# Altium schematic symbol library LM46001.Schlib: 1 symbol
Pins are listed as number, name and electrical type; pins without a type are passive.

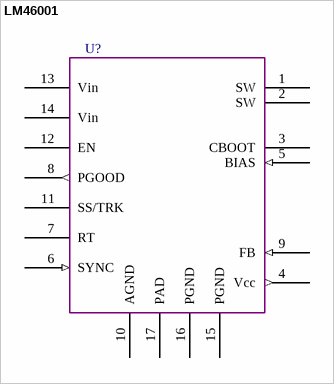
[diagram p0: symbol LM46001]

## LM46001
designator U?  (value not drawn)
synchronous  step-down  DC-DC converter,  3.5 V to 60 V, 1A
pins: 1 SW, 2 SW, 3 CBOOT, 4 Vcc (out), 5 BIAS (in), 6 SYNC (in), 7 RT, 8 PGOOD (out), 9 FB (in), 10 AGND, 11 SS/TRK, 12 EN, 13 Vin, 14 Vin, 15 PGND, 16 PGND, 17 PAD